# Altium footprint library CDRH74.PcbLib: 2 footprints
Each footprint in its own frame and in the unit in brackets; x right, y up, seen from the top. Pads: shape width x height; smd on the part's side, far side on the other; paste and mask are expansions set on the pad; w line width, h text height; cw(c..) or ccw(c..) is an arc to the next point about the centre after c.
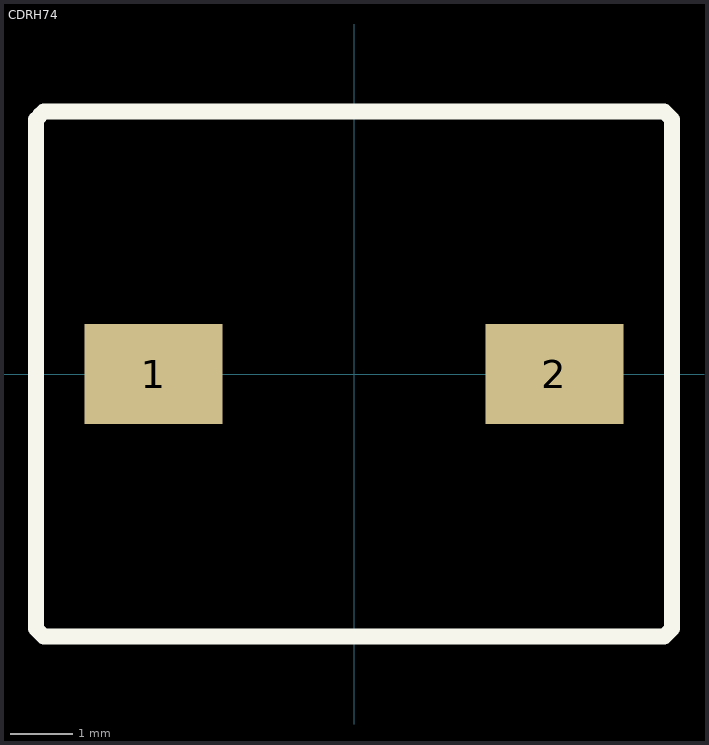
[diagram p0: the footprints below, top view; thin cyan lines are the x and y axes]

## CDRH74 [mm]
pads (2):
  rect 2.2x1.6 smd: 1(-3.2,0) 2(3.2,0)
Top Overlay:
  lines w0.254: -5.08,4.064 -5.08,-4.064 -4.953,-4.191 4.953,-4.191 5.08,-4.064 5.08,4.064 4.953,4.191 -4.953,4.191 -5.024,4.12
3D body "CDRN74.stp": height 4.49, standoff -0.01, extent -3.65,-3.65 3.65,3.65

## PCBComponent_1 [mm]